# EAGLE library part µSD-SW (library CougsInSpace-Connectors)
µSD with Detection Switch
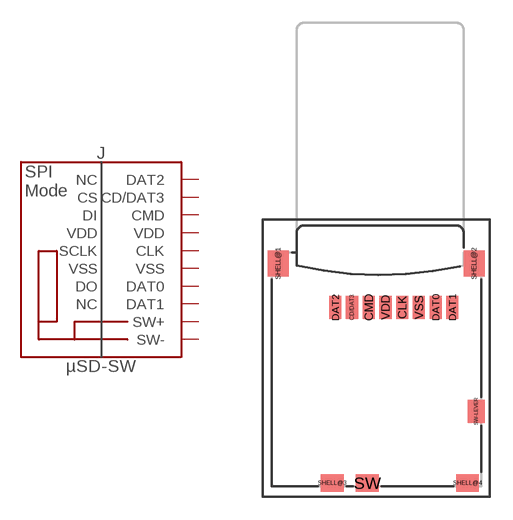
[diagram p2: symbol with the pads of µSD-PUSH-PUSH; footprint µSD-PUSH-PUSH]

Designator prefix J

## µSD-SW-PUSH-PUSH (SKU: 04-0005)  [µSD-PUSH-PUSH]
CD/DAT3  CD/DAT3
CLK  CLK  in
CMD  CMD
DAT0  DAT0
DAT1  DAT1
DAT2  DAT2
SW  SW+
SW-LEVER  SW-
VDD  VDD  pwr
VSS  VSS  pwr

## Footprint µSD-PUSH-PUSH (pad centres in mm)
µSD Push-Push Push to insert, push to remove
smd 0.8 x 1.5: CD/DAT3 5.55,-3.75; CLK 8.85,-3.75; CMD 6.65,-3.75; DAT0 11.05,-3.75; DAT1 12.15,-3.75; DAT2 4.45,-3.75; VDD 7.75,-3.75; VSS 9.95,-3.75
smd 1.4 x 1.7: SHELL@1 0.7,-0.85; SHELL@2 13.6,-0.85
smd 1.5 x 1.15: SHELL@3 4.25,-15.325; SHELL@4 13.15,-15.325; SW 6.55,-15.325
smd 1.15 x 1.5: SW-LEVER 13.725,-10.6